# Altium footprint library DIP.PcbLib: 2 footprints
Each footprint in its own frame and in the unit in brackets; x right, y up, seen from the top. Pads: shape width x height; smd on the part's side, far side on the other; paste and mask are expansions set on the pad; w line width, h text height; cw(c..) or ccw(c..) is an arc to the next point about the centre after c.
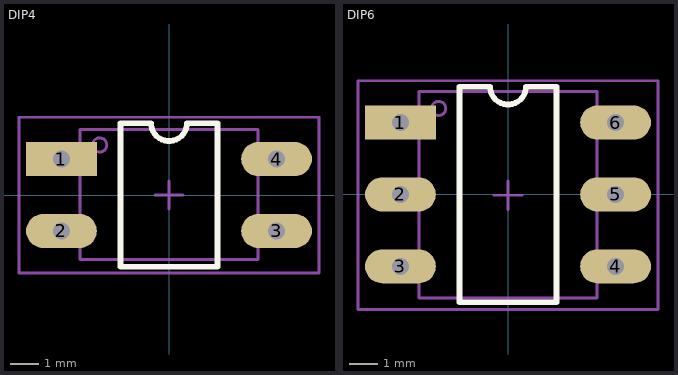
[diagram p0: the footprints below, top view; thin cyan lines are the x and y axes]

## DIP4 [mm]
pads (4):
  rect 2.5x1.2 hole 0.6: 1(-3.8,1.27)
  oval 2.5x1.2 hole 0.6: 2(-3.8,-1.27) 3(3.8,-1.27) 4(3.8,1.27)
Top Overlay:
  lines w0.2: -1.715,-2.54 1.715,-2.54 1.715,2.54 0.635,2.54 cw(c0,2.54) -0.635,2.54 -1.715,2.54 -1.715,-2.54
Mechanical 13:
  circle w0.1: c-2.45,1.77 r0.25
  lines w0.1: -3.15,-2.28 -3.15,2.32 3.15,2.32 3.15,-2.28 -3.15,-2.28
Mechanical 15:
  lines w0.1: -0.5,0 0.5,0 ; 0,-0.5 0,0.5 ; -5.3,-2.75 5.3,-2.75 5.3,2.75 -4.5,2.75 -5.3,2.75 -5.3,-2.75
3D body "User Library-PC814.STEP": height 4.66, standoff -1.3, extent -3.94,-2.28 3.94,2.32

## DIP6 [mm]
pads (6):
  rect 2.5x1.2 hole 0.6: 1(-3.8,2.54)
  oval 2.5x1.2 hole 0.6: 2(-3.8,0) 3(-3.8,-2.54) 4(3.8,-2.54) 5(3.8,0) 6(3.8,2.54)
Top Overlay:
  lines w0.2: -1.715,-3.81 1.715,-3.81 1.715,3.81 0.635,3.81 cw(c0,3.81) -0.635,3.81 -1.715,3.81 -1.715,-3.81
Mechanical 13:
  circle w0.1: c-2.45,3.04 r0.25
  lines w0.1: -3.15,-3.66 -3.15,3.64 3.15,3.64 3.15,-3.66 -3.15,-3.66
Mechanical 15:
  lines w0.1: -0.5,-0.03 0.5,-0.03 ; 0,-0.53 0,0.47 ; -5.3,-4.06 5.3,-4.06 5.3,4.02 -4.5,4.02 -5.3,4.02 -5.3,-4.06
3D body "User Library-DIP6.STEP": height 4.3, standoff -3, extent -3.935,-3.58 3.935,3.54